# EAGLE library part 79109-10 (library untitled)
RECEPTACAL
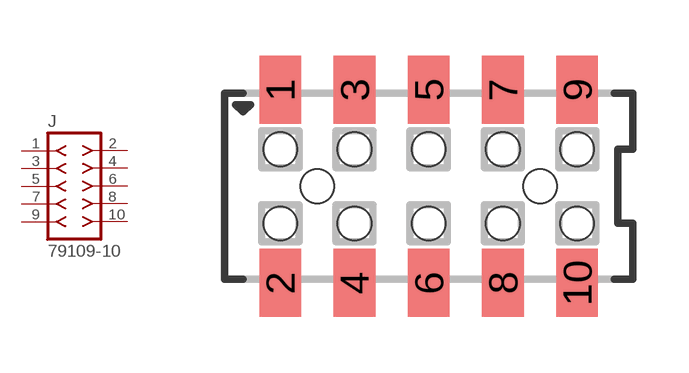
[diagram p162: symbol with the pads of 79109-10; footprint 79109-10]

Designator prefix J

## 79109-10  [79109-10]
1  1  pas
2  2  pas
3  3  pas
4  4  pas
5  5  pas
6  6  pas
7  7  pas
8  8  pas
9  9  pas
10  10  pas

## Footprint 79109-10 (pad centres in mm)
RECEPTACAL SMD Dual Row, Vertical, Pass-Thru
smd 1.12 x 1.83: 1 -4,2.6; 2 -4,-2.6; 3 -2,2.6; 4 -2,-2.6; 5 0,2.6; 6 0,-2.6; 7 2,2.6; 8 2,-2.6; 9 4,2.6; 10 4,-2.6
hole 0.914 at -3,0
hole 0.914 at -4,1
hole 0.914 at -4,-1
hole 0.914 at -2,-1
hole 0.914 at -2,1
hole 0.914 at 0,-1
hole 0.914 at 0,1
hole 0.914 at 3,0
hole 0.914 at 2,1
hole 0.914 at 2,-1
hole 0.914 at 4,1
hole 0.914 at 4,-1